# Altium footprint library urover.PCBLIB: 175 footprints (part 2 of 11)
Each footprint in its own frame and in the unit in brackets; x right, y up, seen from the top. Pads: shape width x height; smd on the part's side, far side on the other; paste and mask are expansions set on the pad; w line width, h text height; cw(c..) or ccw(c..) is an arc to the next point about the centre after c.
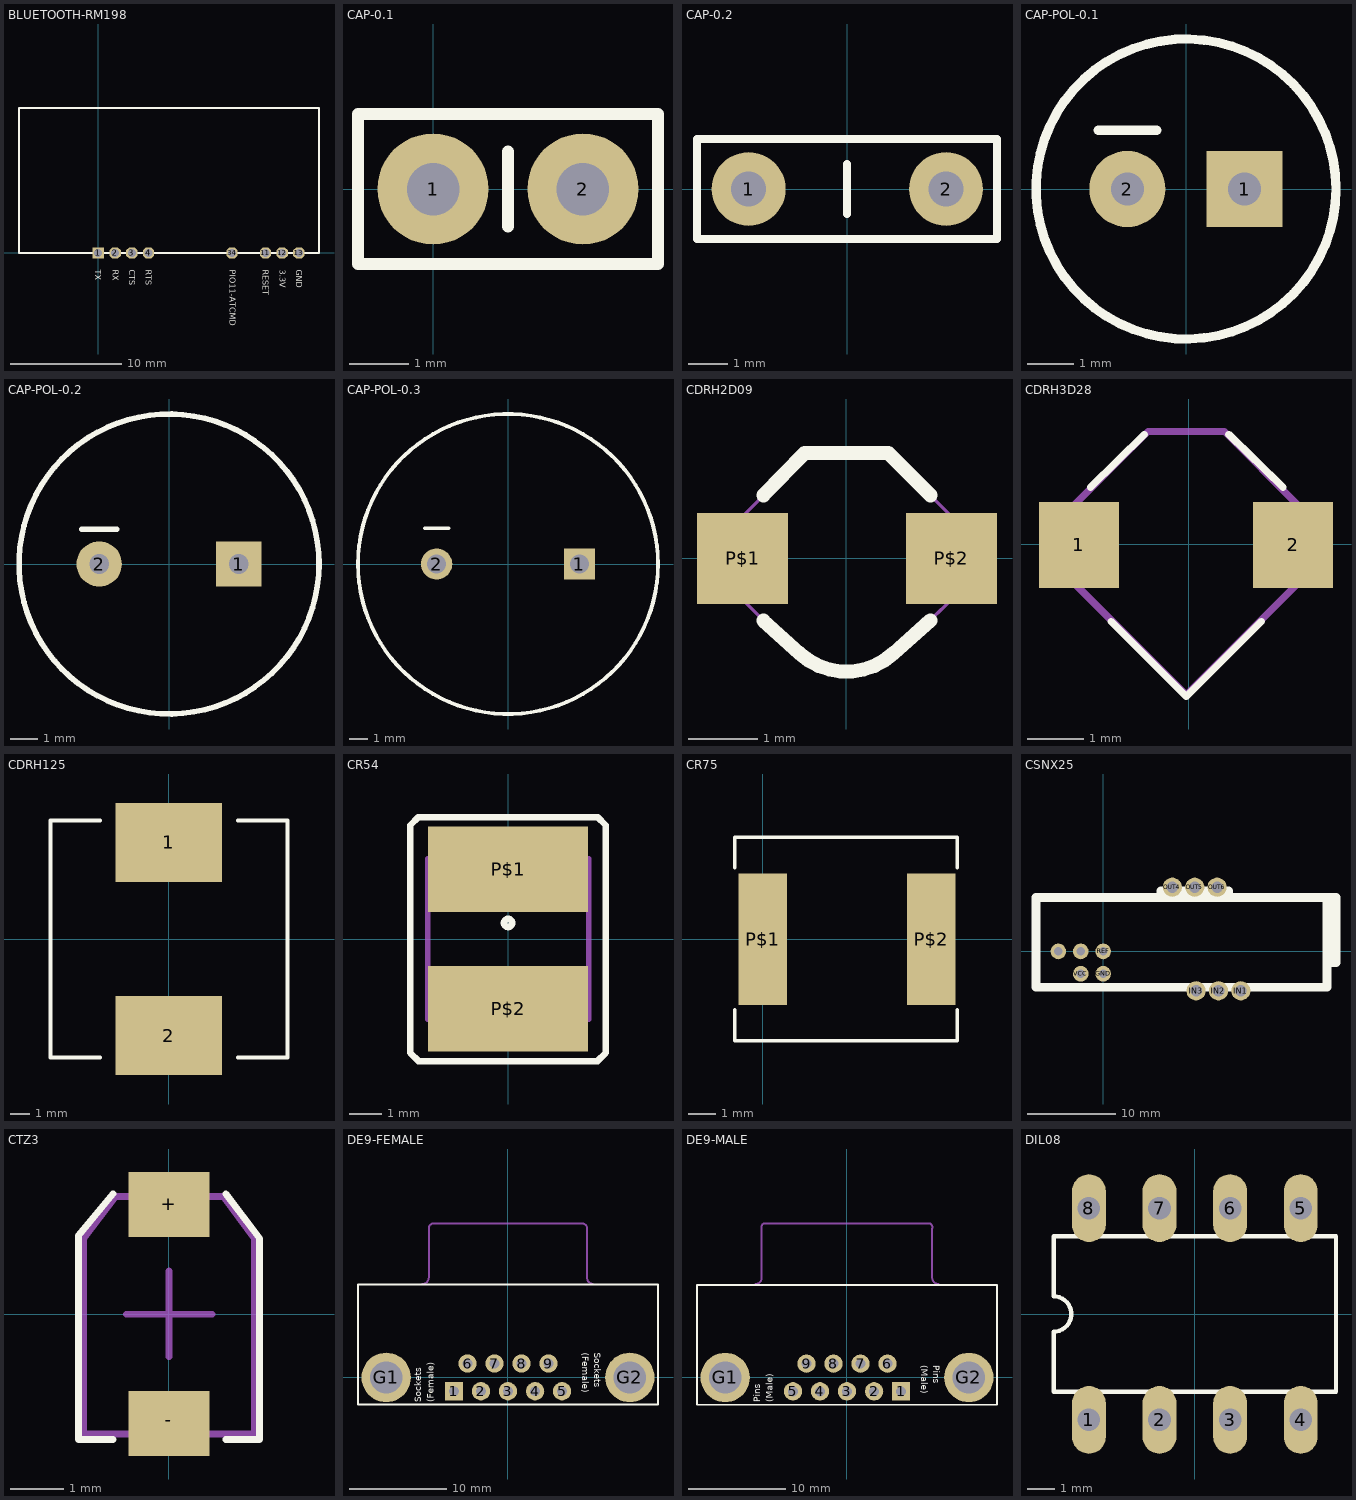
[diagram p1: the footprints below, top view; thin cyan lines are the x and y axes]

## BLUETOOTH-RM198 [mil]
pads (8):
  rect 40x40 hole 28: 1(0,0)
  oct 40x40 hole 28: 2(60,0) 3(119,0) 4(178,0) 11(591,0) 12(650,0) 13(709,0) 34(473,0)
Top Overlay:
  lines w8: -279.53,0 -279.53,512 780,512 780,0 -279.53,0
  text "TX" at -10,-60 h20.4
  text "RX" at 51,-60 h20.4
  text "CTS" at 109,-60 h20.4
  text "RTS" at 169,-60 h20.4
  text "GND" at 699,-60 h20.4
  text "3.3V" at 642,-60 h20.4
  text "PIO11-ATCMD" at 465,-60 h20.4
  text "RESET" at 581,-60 h20.4
Mechanical 16:
  rectangle: -10,-10 10,10
  rectangle: 50,-10 70,10
  rectangle: 109,-10 129,10
  rectangle: 168,-10 188,10
  rectangle: 640,-10 660,10
  rectangle: 699,-10 719,10
  rectangle: 581,-10 601,10
  rectangle: 463,-10 483,10

## CAP-0.1 [mil]
pads (2):
  round 74 hole 35: 1(0,0) 2(100,0)
Top Overlay:
  lines w8: 50,-25 50,25 ; -50,-50 150,-50 150,50 -50,50 -50,-50

## CAP-0.2 [mil]
pads (2):
  round 74 hole 35: 1(-98.43,0) 2(99,0)
Top Overlay:
  lines w8: 0,-25 0,25 ; -150,-50 -150,50 150,50 150,-50 -150,-50

## CAP-POL-0.1 [mil]
pads (2):
  rect 65x65 hole 28: 1(50,0)
  round 65 hole 28: 2(-50,0)
Top Overlay:
  circle w8: c0,0 r128
  lines w8: -75,50 -25,50

## CAP-POL-0.2 [mil]
pads (2):
  rect 65x65 hole 28: 1(100,0)
  round 65 hole 28: 2(-100,0)
Top Overlay:
  circle w8: c0,0 r215
  lines w8: -125,50 -75,50

## CAP-POL-0.3 [mil]
pads (2):
  rect 65x65 hole 40: 1(150,0)
  round 66 hole 40: 2(-150,0)
Top Overlay:
  circle w8: c0,0 r315
  lines w8: -175,75 -125,75

## CDRH2D09 [mil]
pads (2):
  rect 52x52 smd: P$1(-59.06,0) P$2(60,0)
Top Overlay:
  lines w8: -47.24,-35.43 -26.7,-54.09 ccw(c0.15,-25) 27,-54.09 48,-35.43 ; -47.24,36 -23.62,60 24,60 48,36
Mechanical 16:
  lines w2: -59.06,-23.62 -27.84,-54.84 ccw(c0.08,-26.92) 28,-54.84 60,-23.62 60,24 24,60 -23.62,60 -59.06,24 -59.06,-23.62

## CDRH3D28 [mil]
pads (2):
  rect 56x60 smd: 1(-76.79,-0.28) 2(73,-0.28)
Top Overlay:
  lines w5: -68.64,40 -31.08,77 ; -54.27,-53.74 -1.72,-106.3 51,-53.74 ; 28,77 66,40
Mechanical 16:
  lines w5: -80.72,-26.65 -80.73,27 -28.37,79 25,79 77,27 77,-26.65 ; -80.45,-26.77 -2.11,-105.11 ; -1.99,-105.31 77,-26.52

## CDRH125 [mil]
pads (2):
  rect 213x158 smd: 1(0,193) 2(0,-192.91)
Top Overlay:
  lines w8: -137.8,-236.22 -236.22,-236.22 -236.22,237 -137.8,237 ; 138,-236.22 237,-236.22 237,237 138,237

## CR54 [mil]
pads (2):
  rect 197x105 smd: P$1(0,86) P$2(0,-85.43)
Top Overlay:
  circle w8: c0,20 r5
  lines w8: -120,-139.69 -110,-149.69 110,-149.69 120,-139.69 120,140 110,150 -110,150 -120,140 -120,-139.69
Mechanical 16:
  lines w7: -98.43,-98.43 -98.43,99 99,99 99,-98.43 -98.43,-98.43

## CR75 [mil]
pads (2):
  rect 69x186 smd: P$1(0,0) P$2(239,0)
Top Overlay:
  lines w5: -39.37,-100.39 -39.37,-143.7 276,-143.7 276,-100.39 ; -39.37,101 -39.37,144 276,144 276,101

## CSNX25 [mil]
pads (11):
  round 70 hole 38: EXTREF(-100,0) GND(0,-100) OUTPUT(-200,0) REF(0,0) VCC(-100,-100)
  round 86 hole 52: IN1(615,-176) IN2(515,-176) IN3(415,-176) OUT4(309,287) OUT5(409,287) OUT6(509,287)
Top Overlay:
  lines w40: 259,250 259,271 559,271 559,250 ; 1000,-50 1000,240 ; 1000,-50 1000,-160 -300,-160 -300,240 1000,240 ; 1000,-50 1040,-50 1040,240 1000,240

## CTZ3 [mil]
pads (2):
  rect 60x48 smd: +(0,81) -(0,-80.71)
Top Overlay:
  lines w5: -41.34,-92.52 -66.93,-92.52 -66.93,58 -41.34,89 ; 42,-92.52 67,-92.52 67,56 42,89
Mechanical 16:
  lines w5: -31.5,0 32,0 ; -19.68,0 20,0 ; 0,-31.5 0,32 ; -62.99,-88.58 -62.99,56 -39.37,87 40,87 63,56 63,-88.58 -62.99,-88.58

## DE9-FEMALE [mil]
pads (11):
  rect 74x74 hole 40: 1(-218.11,-55.91)
  round 74 hole 40: 2(-109.06,-55.91) 3(0,-55.91) 4(110,-55.91) 5(219,-55.91) 6(-163.39,56) 7(-54.33,56) 8(55,56) 9(164,56)
  round 200 hole 130: G1(-492.13,0) G2(493,0)
Top Overlay:
  lines w8: -606.3,-110.24 -606.3,375 607,375 607,-110.24 -606.3,-110.24
  text "Sockets" at -350,-100 h27.2
  text "Sockets" at 350,100 h27.2
  text "(Female)" at -300,-100 h27.2
  text "(Female)" at 300,100 h27.2
Mechanical 16:
  lines w8: -345,378 ccw(c-345,403) -320,403 -320,603 cw(c-300,603) -300,623 300,623 cw(c300,603) 320,603 320,403 ccw(c345,403) 345,378

## DE9-MALE [mil]
pads (11):
  rect 74x74 hole 40: 1(219,-55.91)
  round 74 hole 40: 2(110,-55.91) 3(0,-55.91) 4(-109.06,-55.91) 5(-218.11,-55.91) 6(164,56) 7(55,56) 8(-54.33,56) 9(-163.39,56)
  round 200 hole 130: G1(-492.13,0) G2(493,0)
Top Overlay:
  lines w8: -606.3,-110.24 -606.3,375 607,375 607,-110.24 -606.3,-110.24
  text "Pins" at -350,-100 h27.2
  text "Pins" at 350,50 h27.2
  text "(Male)" at -300,-100 h27.2
  text "(Male)" at 300,50 h27.2
Mechanical 16:
  lines w8: -370,378 ccw(c-370,403) -345,403 -345,603 cw(c-330,608) -335,623 335,623 cw(c330,608) 345,603 345,403 ccw(c370,403) 370,378

## DIL08 [mil]
pads (8):
  oval 48x96 hole 32: 1(-150,-150) 2(-50,-150) 3(50,-150) 4(150,-150) 5(150,150) 6(50,150) 7(-50,150) 8(-150,150)
Top Overlay:
  lines w6: -200,-110 -200,-25 ccw(c-200,0) -200,25 -200,110 200,110 200,-110 -200,-110